# Altium schematic symbol library MTSW-102-09-G-D-630.SchLib: 1 symbol
Pins are listed as number, name and electrical type; pins without a type are passive.

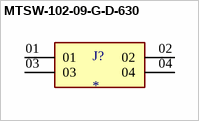
[diagram p0: symbol MTSW-102-09-G-D-630]

## MTSW-102-09-G-D-630
designator J?
MP: MTSW-102-09-G-D-630; Package: None; Price: None; Value: *; Availability: Unavailable
footprint SAMTEC_MTSW-102-09-G-D-630
pins: 01, 02, 03, 04